# Altium schematic symbol library YAGEO-MLCC-NPO-1206.SchLib: 2 symbols
Pins are listed as number, name and electrical type; pins without a type are passive.

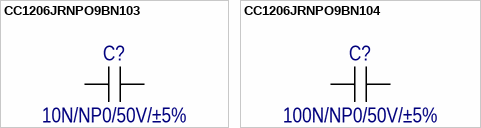
[diagram p0: symbols CC1206JRNPO9BN103 to CC1206JRNPO9BN104]

## CC1206JRNPO9BN103
designator C?  value 10N/NP0/50V/±5%  (hidden comment: *)
Ceramic Capacitor SMD 0805; MountingValue: 10pF
footprint Normal_Capacitor_Standard_1206-L3200-W1600-BW1250-H1600
pins: 1, 2

## CC1206JRNPO9BN104
designator C?  value 100N/NP0/50V/±5%  (hidden comment: *)
Ceramic Capacitor SMD 0805; MountingValue: 10pF
footprint Normal_Capacitor_Standard_1206-L3200-W1600-BW1250-H1600
pins: 1, 2